# Altium integrated library Bourns.IntLib: 1 symbol
Pins are listed as number, name and electrical type; pins without a type are passive.

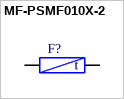
[diagram p0: symbol MF-PSMF010X-2]

## MF-PSMF010X-2
designator F?, comment Polymeric PTC Resettable Fuse 15V 100mA Ih Surface Mount 0805 (2012 Metric), Concave  (value not drawn)
PTC RESET FUSE 15V 100MA 0805; MPN: MF-PSMF010X-2; Supplier 1: Digi-Key; Supplier Part Number 1: MF-PSMF010X-2CT-ND
footprint MF-PSMF
pins: 1, 2
text: t